# EAGLE library part TPA6021A4 (library Audio-Power-amlifier V.2.0)
The TPA6021A4 is a Texas Instruments stereo audio power amplifier that drives 2 W/channel of continuous RMS power into a 4-W load when utilizing a heat sink. Advanced dc volume control minimizes external components and allows BTL (speaker) volume control and SE (headphone) volume control.
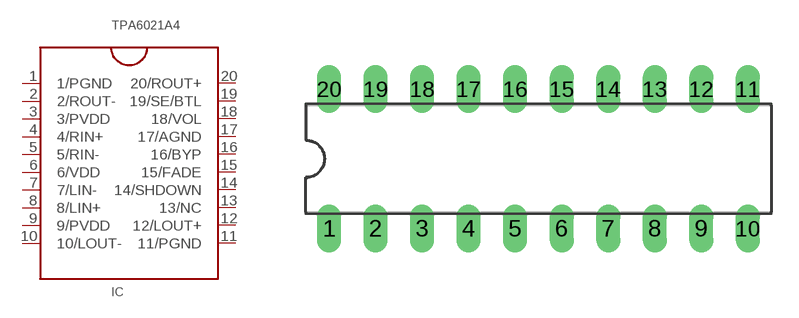
[diagram p101: symbol with the pads of DIL20; footprint DIL20]

Designator prefix IC

## TPA6021A4  [DIL20]
1  1/PGND  pwr
2  2/ROUT-  out
3  3/PVDD  pwr
4  4/RIN+  in
5  5/RIN-  in
6  6/VDD  pwr
7  7/LIN-  in
8  8/LIN+  in
9  9/PVDD  pwr
10  10/LOUT-  out
11  11/PGND  pwr
12  12/LOUT+  out
13  13/NC  nc
14  14/SHDOWN
15  15/FADE
16  16/BYP
17  17/AGND  pwr
18  18/VOL  in
19  19/SE/BTL
20  20/ROUT+  out

## Footprint DIL20 (pad centres in mm)
Dual In Line Package
drill 0.813 long: 1 -11.43,-3.81; 2 -8.89,-3.81; 3 -6.35,-3.81; 4 -3.81,-3.81; 5 -1.27,-3.81; 6 1.27,-3.81; 7 3.81,-3.81; 8 6.35,-3.81; 9 8.89,-3.81; 10 11.43,-3.81; 11 11.43,3.81; 12 8.89,3.81; 13 6.35,3.81; 14 3.81,3.81; 15 1.27,3.81; 16 -1.27,3.81; 17 -3.81,3.81; 18 -6.35,3.81; 19 -8.89,3.81; 20 -11.43,3.81